# EAGLE library part CH340H-SERIAL (library PowerTechLIB2)
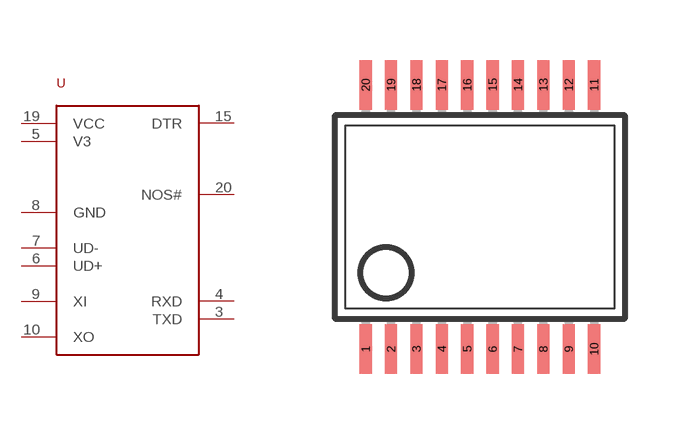
[diagram p1: symbol with the pads of SSOP20; footprint SSOP20]

Designator prefix -

## CH340H-SERIAL  [SSOP20]
3  TXD
4  RXD
5  V3
6  UD+
7  UD-
8  GND
9  XI
10  XO
15  DTR
19  VCC
20  NOS#

## Footprint SSOP20 (pad centres in mm)
Small Shrink Outline Package
smd 0.305 x 1.245: 1 -2.857,-3.302; 2 -2.222,-3.302; 3 -1.587,-3.302; 4 -0.952,-3.302; 5 -0.317,-3.302; 6 0.318,-3.302; 7 0.953,-3.302; 8 1.588,-3.302; 9 2.223,-3.302; 10 2.858,-3.302; 11 2.858,3.302; 12 2.223,3.302; 13 1.588,3.302; 14 0.953,3.302; 15 0.318,3.302; 16 -0.317,3.302; 17 -0.952,3.302; 18 -1.587,3.302; 19 -2.222,3.302; 20 -2.857,3.302